# EAGLE library part TPS5450-Q1 (library MinotaurParts)
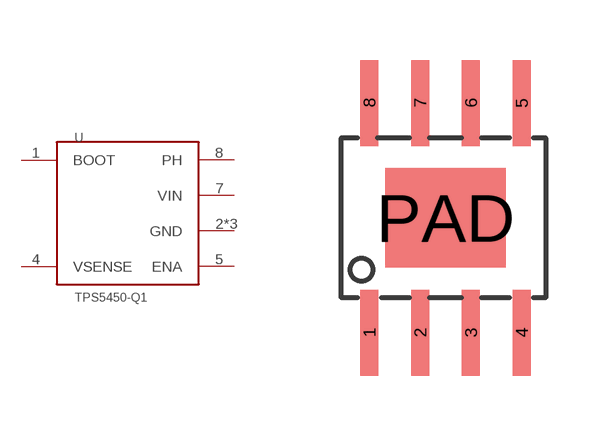
[diagram p8: symbol with the pads of PSOP-8; footprint PSOP-8]

Designator prefix -

## TPS5450-Q1  [PSOP-8]
1  BOOT
2  GND
4  VSENSE
5  ENA
6  GND
7  VIN
8  PH
PAD  GND

## Footprint PSOP-8 (pad centres in mm)
smd 0.45 x 2.15: 1 -1.905,-2.875; 2 -0.635,-2.875; 3 0.635,-2.875; 4 1.905,-2.875; 5 1.905,2.875; 6 0.635,2.875; 7 -0.635,2.875; 8 -1.905,2.875
smd 3 x 2.49: PAD 0,0